# Altium footprint library EISI.PcbLib: 695 footprints (part 18 of 44)
Each footprint in its own frame and in the unit in brackets; x right, y up, seen from the top. Pads: shape width x height; smd on the part's side, far side on the other; paste and mask are expansions set on the pad; w line width, h text height; cw(c..) or ccw(c..) is an arc to the next point about the centre after c.
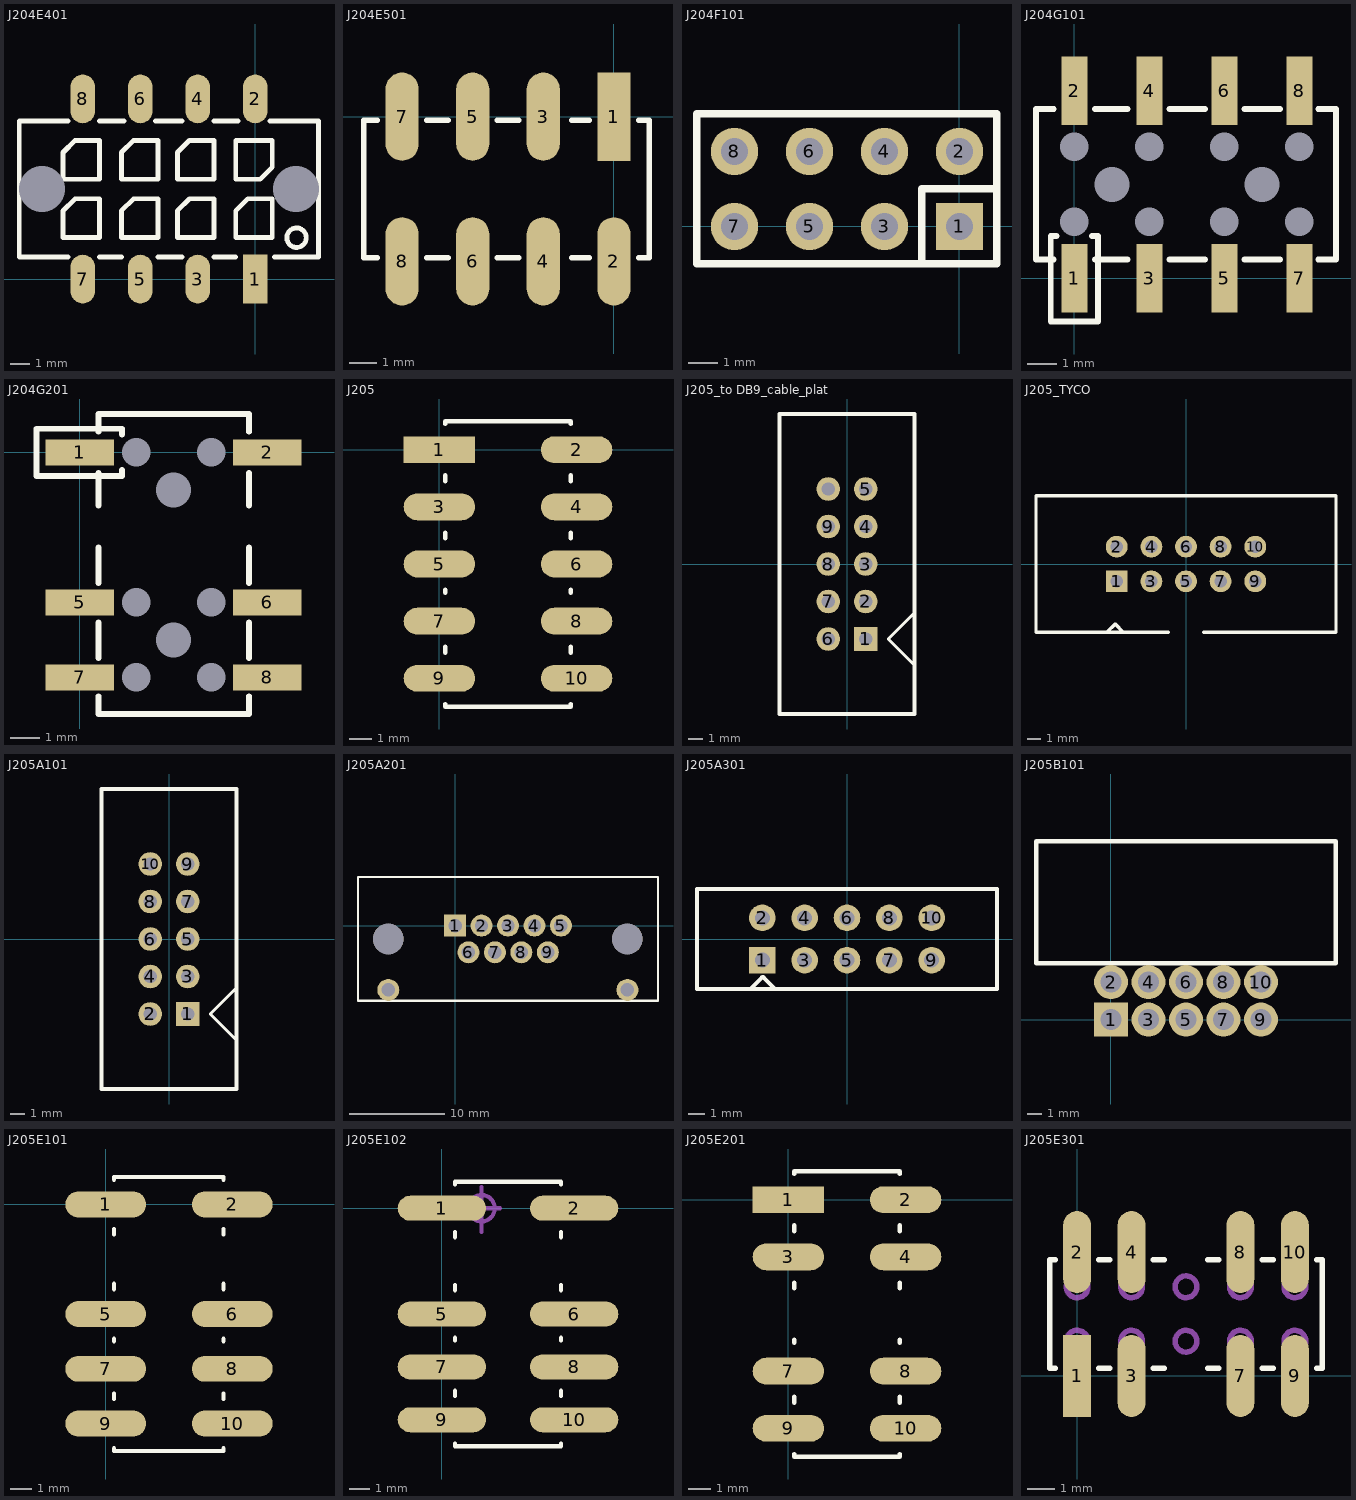
[diagram p17: the footprints below, top view; thin cyan lines are the x and y axes]

## J204E401 [mm]
pads (10):
  rect 1.27x2.54 smd: 1(0,0)
  oval 1.27x2.54 smd: 2(0,9.4) 3(-3,0) 4(-3,9.4) 5(-6,0) 6(-6,9.4) 7(-9,0) 8(-9,9.4)
  round 0.3 hole 2.4: ""(-11.13,4.7) ""(2.13,4.7)
TopOverlay:
  circle w0.254: c2.159,2.159 r0.508
  lines w0.254: -9.779,1.143 -12.319,1.143 -12.319,8.255 -9.779,8.255 ; -8.128,1.143 -6.985,1.143 ; -8.128,8.255 -6.858,8.255 ; -5.207,8.255 -3.81,8.255 ; -5.08,1.143 -3.81,1.143 ; -2.159,1.143 -1.016,1.143 ; -2.159,8.255 -0.889,8.255 ; 0.762,8.255 3.302,8.255 3.302,1.143 1.016,1.143 ; -10.033,2.159 -10.033,3.556 -9.398,4.191 -8.128,4.191 -8.128,2.159 -10.033,2.159 ; -10.033,5.207 -8.128,5.207 -8.128,7.239 -9.398,7.239 -10.033,6.604 -10.033,5.207 ; -6.985,2.159 -5.08,2.159 -5.08,4.191 -6.35,4.191 -6.985,3.556 -6.985,2.159 ; -6.985,5.207 -6.985,6.604 -6.35,7.239 -5.08,7.239 -5.08,5.207 -6.985,5.207 ; -4.064,2.159 -4.064,3.556 -3.429,4.191 -2.159,4.191 -2.159,2.159 -4.064,2.159 ; -4.064,5.207 -2.159,5.207 -2.159,7.239 -3.429,7.239 -4.064,6.604 -4.064,5.207 ; -1.016,2.159 -1.016,3.556 -0.381,4.191 0.889,4.191 0.889,2.159 -1.016,2.159 ; -1.016,5.207 0.254,5.207 0.889,5.842 0.889,7.239 -1.016,7.239 -1.016,5.207

## J204E501 [mil] "Connecteur 2x4SMD pas 2.54mm"
pads (8):
  rect 47.01x125 smd: 1(0,0)
  oval 47.01x125 smd: 2(0,-205) 3(-100,0)
  oval 47x125 smd: 4(-100,-205) 5(-200,0) 6(-200,-205) 7(-300,0) 8(-300,-205)
TopOverlay:
  lines w7.87: -335,-200 -354.33,-200 -354.33,-5 -335,-5 ; -265,-200 -235,-200 ; -265,-5 -235,-5 ; -165,-200 -135,-200 ; -165,-5 -135,-5 ; -60,-200 -35,-200 ; -60,-5 -35,-5 ; 35,-200 50,-200 ; 35,-5 50,-5
  lines w7.99: 50,-200 50,-5

## J204F101 [mm]
pads (8):
  rect 1.6x1.6 hole 0.9: 1(0,0)
  round 1.6 hole 0.9: 2(0,2.54) 3(-2.54,0) 4(-2.54,2.54) 5(-5.08,0) 6(-5.08,2.54) 7(-7.62,0) 8(-7.62,2.54)
TopOverlay:
  lines w0.254: -1.27,-1.27 -1.27,1.27 1.27,1.27 ; -8.89,-1.27 1.27,-1.27 1.27,3.81 -8.89,3.81 -8.89,-1.27

## J204G101 [mil]
pads (18):
  rect 35x91 smd: 1(0,0) 2(0,250) 3(100,0) 4(100,250) 5(200,0) 6(200,250) 7(300,0) 8(300,250)
  round 12 hole 38: ""(0,75) ""(0,175) ""(100,75) ""(100,175) ""(200,75) ""(200,175) ""(300,75) ""(300,175)
  round 12 hole 47: ""(50,125) ""(250,125)
TopOverlay:
  lines w7.87: -27.56,25 -51.18,25 -51.18,225.79 -27.56,225.79 ; -23.62,56.5 -31.5,56.5 -31.5,25 -31.5,-57.68 27.56,-57.68 31.5,-57.68 31.5,52.56 31.5,56.5 23.62,56.5 ; 27.56,25 70.87,25 ; 27.56,225.79 70.87,225.79 ; 126.77,25 174.01,25 ; 126.77,225.79 174.01,225.79 ; 325.2,25 348.82,25 348.82,225.79 325.2,225.79 ; 226.77,25 274.01,25 226.77,25 ; 226.77,225.79 274.01,225.79 226.77,225.79

## J204G201 [mil]
pads (14):
  rect 91x35 smd: 1(0,0) 2(250,0) 5(0,-200) 6(250,-200) 7(0,-300) 8(250,-300)
  round 12 hole 38: ""(75,-300) ""(75,-200) ""(75,0) ""(175,-300) ""(175,-200) ""(175,0)
  round 12 hole 47: ""(125,-50) ""(125,-250)
TopOverlay:
  lines w7.87: 25,-325.2 25,-348.82 225.79,-348.82 225.79,-325.2 ; 25,-174.01 25,-126.77 ; 25,-70.87 25,-27.56 ; 25,27.56 25,51.18 225.79,51.18 225.79,27.56 ; 56.5,-23.62 56.5,-31.5 52.56,-31.5 -57.68,-31.5 -57.68,-27.56 -57.68,31.5 25,31.5 56.5,31.5 56.5,23.62 ; 225.79,-174.01 225.79,-126.77 ; 225.79,-70.87 225.79,-27.56 ; 25,-274.01 25,-226.77 25,-274.01 ; 225.79,-274.01 225.79,-226.77 225.79,-274.01

## J205 [mil]
pads (10):
  rect 125x47 smd: 1(0,0)
  oval 125x47 smd: 2(240,0) 3(0,-100) 4(240,-100) 5(0,-200) 6(240,-200) 7(0,-300) 8(240,-300) 9(0,-400) 10(240,-400)
TopOverlay:
  lines w7.87: 10,-445 10,-450 230,-450 230,-445 ; 10,-355 10,-345 ; 10,-250 10,-245 ; 10,-155 10,-145 ; 10,-55 10,-45 ; 10,45 10,50 230,50 230,45 ; 230,-355 230,-345 ; 230,-250 230,-245 ; 230,-155 230,-145 ; 230,-55 230,-45

## J205_to DB9_cable_plat [mm]
pads (10):
  rect 1.6x1.6 hole 0.9: 1(1.27,-5.08)
  round 1.6 hole 0.9: 2(1.27,-2.54) 3(1.27,0) 4(1.27,2.54) 5(1.27,5.08) 6(-1.27,-5.08) 7(-1.27,-2.54) 8(-1.27,0) 9(-1.27,2.54) ""(-1.27,5.08)
TopOverlay:
  lines w0.2: 4.572,-6.858 2.794,-5.08 4.572,-3.302
  lines w0.254: -4.572,-10.16 4.572,-10.16 4.572,10.16 -4.572,10.16 -4.572,-10.16

## J205_TYCO [mm] "Barrettes à broches DIN 41651 10P TYCO V23535A2200A100"
height 12.6
pads (10):
  rect 1.6x1.6 hole 0.9: 1(-5.08,-1.27)
  round 1.6 hole 0.9: 2(-5.08,1.27) 3(-2.54,-1.27) 4(-2.54,1.27) 5(0,-1.27) 6(0,1.27) 7(2.54,-1.27) 8(2.54,1.27) 9(5.08,-1.27) 10(5.08,1.27)
TopOverlay:
  lines w0.25: -5.8,-5 -5.2,-4.4 ; -4.6,-5 -5.2,-4.4 ; -1.3,-5 -11,-5 -11,5 11,5 11,-5 1.3,-5 ; -5.2,-4.4 -5.2,-4.4

## J205A101 [mm]
pads (10):
  rect 1.6x1.6 hole 0.9: 1(1.27,-5.08)
  round 1.6 hole 0.9: 2(-1.27,-5.08) 3(1.27,-2.54) 4(-1.27,-2.54) 5(1.27,0) 6(-1.27,0) 7(1.27,2.54) 8(-1.27,2.54) 9(1.27,5.08) 10(-1.27,5.08)
TopOverlay:
  lines w0.2: 4.572,-6.858 2.794,-5.08 4.572,-3.302
  lines w0.254: -4.572,-10.16 -4.572,10.16 4.572,10.16 4.572,-10.16 -4.572,-10.16

## J205A201 [mm]
pads (13):
  rect 2.3x2.3 hole 1.4 unplated: 1(0,0)
  round 2.3 hole 1.4 unplated: 2(2.769,0) 3(5.537,0) 4(8.306,0) 5(11.074,0) 6(1.397,-2.794) 7(4.166,-2.794) 8(6.934,-2.794) 9(9.703,-2.794) ""(-6.985,-6.731) ""(18.034,-6.731)
  round 3.2 hole 3.2: ""(-6.985,-1.397) ""(18.034,-1.397)
TopOverlay:
  lines w0.2: -10.16,5.08 21.234,5.08 21.234,-7.874
  lines w0.254: -10.16,5.08 -10.16,-7.874 21.234,-7.874

## J205A301 [mm] "Header 10 pôles  a sertir"
height 5.5
pads (10):
  rect 1.6x1.6 hole 0.9: 1(-5.08,-1.27)
  round 1.6 hole 0.9: 2(-5.08,1.27) 3(-2.54,-1.27) 4(-2.54,1.27) 5(0,-1.27) 6(0,1.27) 7(2.54,-1.27) 8(2.54,1.27) 9(5.08,-1.27) 10(5.08,1.27)
TopOverlay:
  lines w0.254: -5.842,-3 -5.794,-3 -5.08,-2.286 -5.032,-2.286 -4.318,-3 ; -9,-3 9,-3 9,3 -9,3 -9,-3

## J205B101 [mm]
pads (10):
  rect 2.3x2.3 hole 1.4 unplated: 1(0.025,0)
  round 2.3 hole 1.4 unplated: 2(0.025,2.54) 3(2.565,0) 4(2.565,2.54) 5(5.105,0) 6(5.105,2.54) 7(7.645,0) 8(7.645,2.54) 9(10.185,0) 10(10.185,2.54)
TopOverlay:
  lines w0.305: -5.055,3.81 -1.245,3.81 15.265,3.81 15.265,12.065 13.995,12.065 8.915,12.065 7.645,12.065 -1.245,12.065 -5.055,12.065 -5.055,3.81

## J205E101 [mm]
pads (8):
  oval 3.75x1.2 smd: 1(0,0) 2(5.867,0) 5(0,-5.08) 6(5.867,-5.08) 7(0,-7.62) 8(5.867,-7.62) 9(0,-10.16) 10(5.867,-10.16)
TopOverlay:
  lines w0.2: 0.381,-11.303 0.381,-11.43 5.461,-11.43 5.461,-11.303 ; 0.381,-9.017 0.381,-8.763 ; 0.381,-6.35 0.381,-6.223 ; 0.381,-3.937 0.381,-3.683 ; 0.381,-1.397 0.381,-1.143 ; 0.381,1.143 0.381,1.27 5.461,1.27 5.461,1.143 ; 5.461,-9.017 5.461,-8.763 ; 5.461,-6.35 5.461,-6.223 ; 5.461,-3.937 5.461,-3.683 ; 5.461,-1.397 5.461,-1.143

## J205E102 [mm]
pads (8):
  oval 4.25x1.2 smd: 1(0,0) 2(6.35,0) 5(0,-5.08) 6(6.35,-5.08) 7(0,-7.62) 8(6.35,-7.62) 9(0,-10.16) 10(6.35,-10.16)
TopOverlay:
  lines w0.2: 0.635,-11.303 0.635,-11.43 5.715,-11.43 5.715,-11.303 ; 0.635,-9.017 0.635,-8.763 ; 0.635,-6.35 0.635,-6.223 ; 0.635,-3.937 0.635,-3.683 ; 0.635,-1.397 0.635,-1.143 ; 0.635,1.143 0.635,1.27 5.715,1.27 5.715,1.143 ; 5.715,-9.017 5.715,-8.763 ; 5.715,-6.35 5.715,-6.223 ; 5.715,-3.937 5.715,-3.683 ; 5.715,-1.397 5.715,-1.143
Mechanical3:
  circle w0.203: c1.905,0 r0.635
  lines w0.2: 1.016,0 2.794,0 ; 1.905,-1.143 1.905,1.016

## J205E201 [mil]
pads (8):
  rect 125x47 smd: 1(0,0)
  oval 125x47 smd: 2(205,0) 3(0,-100) 4(205,-100) 7(0,-300) 8(205,-300) 9(0,-400) 10(205,-400)
TopOverlay:
  lines w7.87: 10,-445 10,-450 195,-450 195,-445 ; 10,-355 10,-345 ; 10,-250 10,-245 ; 10,-155 10,-145 ; 10,-55 10,-45 ; 10,45 10,50 195,50 195,45 ; 195,-355 195,-345 ; 195,-250 195,-245 ; 195,-155 195,-145 ; 195,-55 195,-45

## J205E301 [mm]
pads (8):
  rect 1.02x3.02 smd: 1(0,0)
  oval 1.02x3.02 smd: 2(0,4.55) 3(2,0) 4(2,4.55) 7(6,0) 8(6,4.55) 9(8,0) 10(8,4.55)
TopOverlay:
  lines w0.2: -0.8,0.275 -1,0.275 -1,4.275 -0.8,4.275 ; 0.8,0.275 1.2,0.275 ; 0.8,4.275 1.2,4.275 ; 2.8,0.275 3.2,0.275 ; 2.8,4.275 3.2,4.275 ; 4.8,0.275 5.2,0.275 ; 4.8,4.275 5.2,4.275 ; 6.8,0.275 7.2,0.275 ; 6.8,4.275 7.2,4.275 ; 8.8,0.275 9,0.275 9,4.275 8.8,4.275
Mechanical4:
  circle w0.2: c8,3.275 r0.4
  circle w0.2: c8,1.275 r0.4
  circle w0.2: c6,1.275 r0.4
  circle w0.2: c6,3.275 r0.4
  circle w0.2: c4,3.275 r0.4
  circle w0.2: c4,1.275 r0.4
  circle w0.2: c2,3.275 r0.4
  circle w0.2: c2,1.275 r0.4
  circle w0.2: c0,1.275 r0.4
  circle w0.2: c0,3.275 r0.4